# Altium schematic symbol library DRC.SchLib: 25 symbols
Pins are listed as number, name and electrical type; pins without a type are passive.

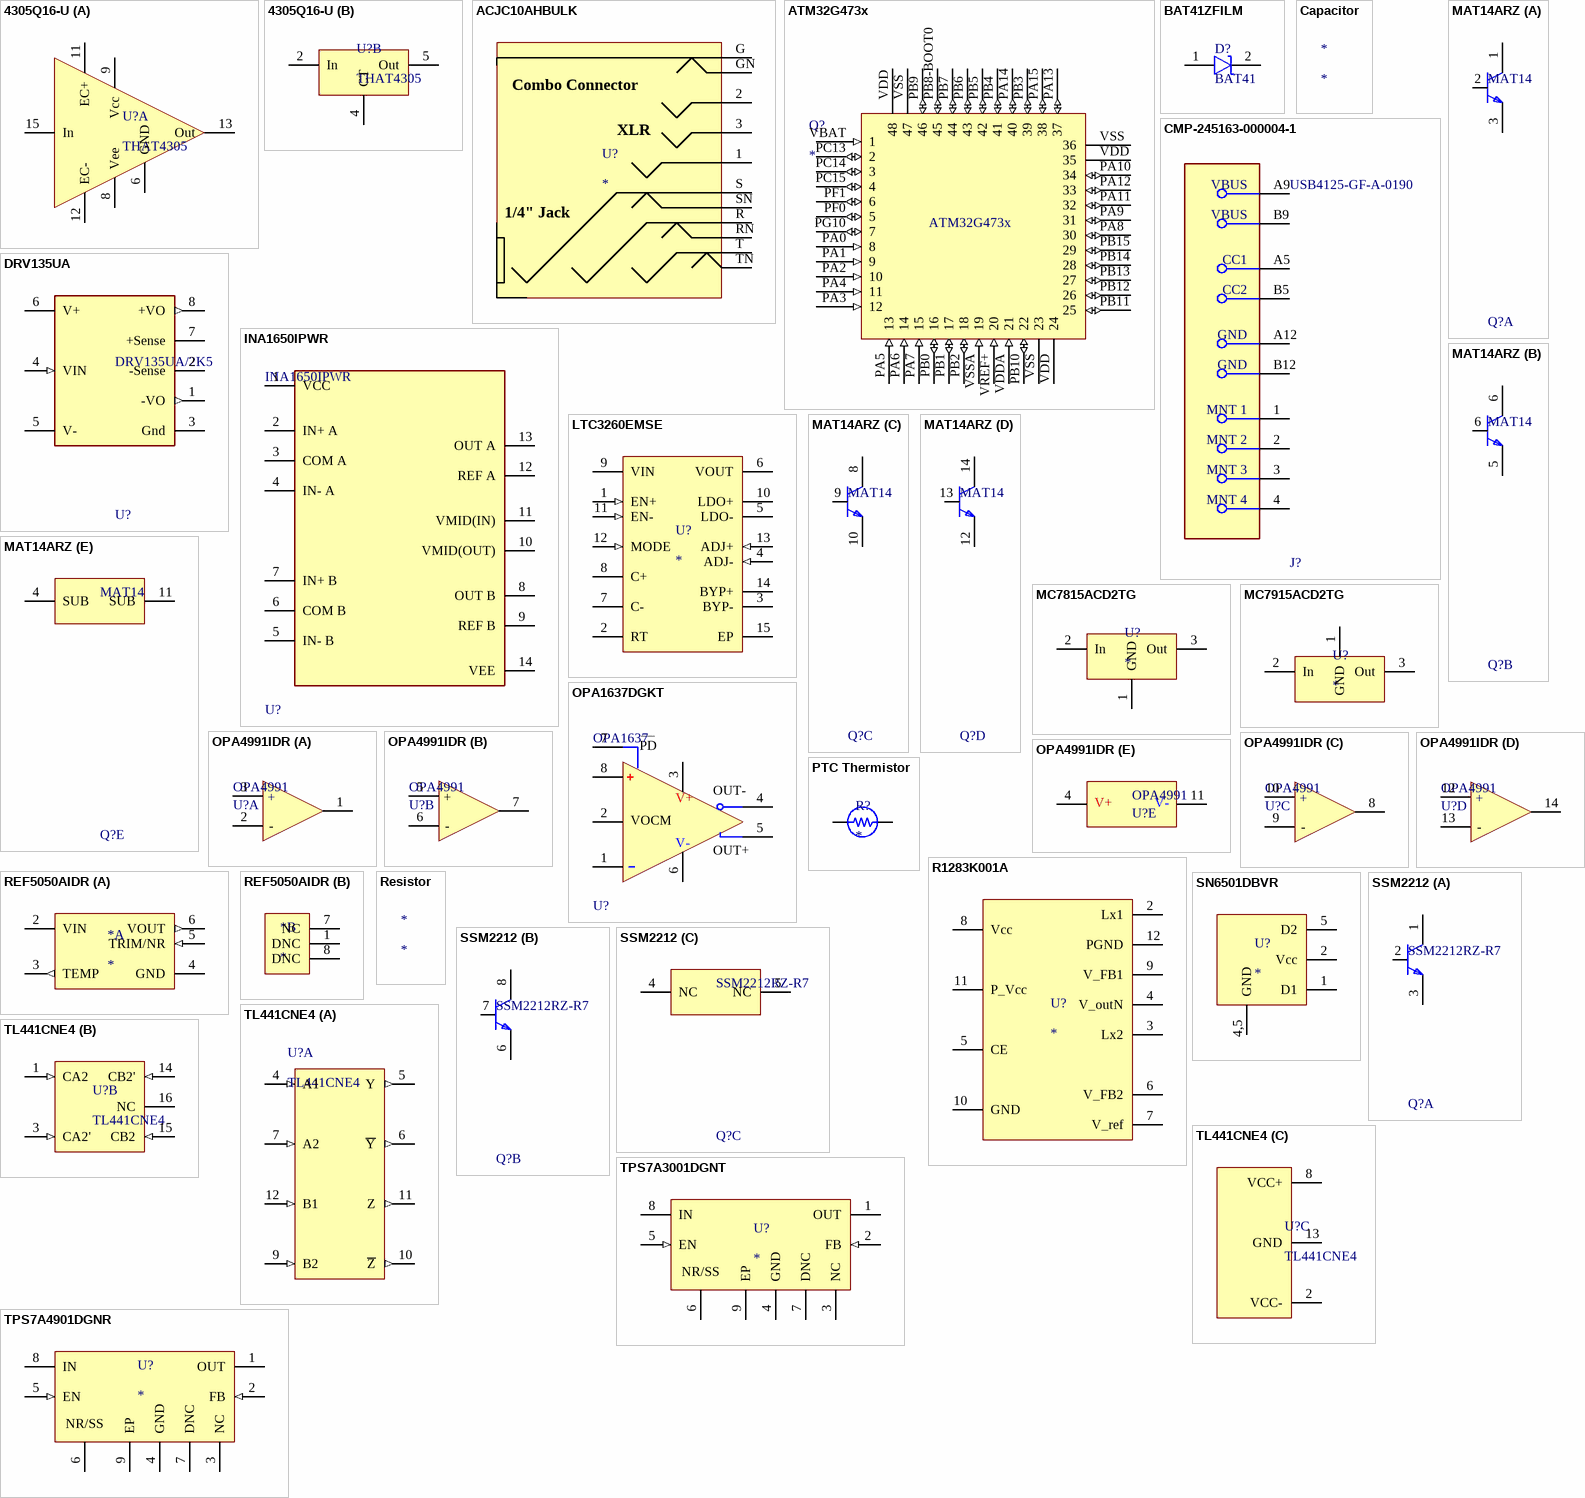
[diagram p0: symbols 4305Q16-U to TPS7A4901DGNR]

## 4305Q16-U
designator U?, comment THAT4305
Pre-trimmed Analog Engine® Dynamics Processor IC
simulation model THAT4305 (Model Description)
footprint QSOP-16 (QSOP, 16-Leads, Body 4.89x3.90mm, Pitch 0.64mm, IPC Medium Density)
part A pins: 6 GND, 8 Vee, 9 Vcc, 11 EC+, 12 EC-, 13 Out, 15 In
part B pins: 2 In, 4 CT, 5 Out

## ACJC10AHBULK
designator U?
Audio/RCA Connector, 10 Pole(s), Female, Solder Terminal, Latch, Receptacle; Manufacturer: Amphenol; Manufacturer Part Number: ACJC10AHBULK; Supplier: Digikey; Supplier Part Number: 889-ACJC10AHBULK-ND; RoHS: Yes; Stock: 1003; Pricing: 1=3.96, 10=3.6, 25=3.4092, 50=3.33, 100=3.1714, 250=2.77496, 500=2.69568, 1000=2.29926, 2500=2.1407 (USD); Contact Finish - Mating: NOT SPECIFIED; Connector Type: AUDIO/RCA CONNECTOR; RoHS Compliant: Yes; ComponentLink1URL: https://datasheet.ciiva.com:443/pdfs/VipMasterIC/IC/AMPH/AMPHS14349/AMPHS14349-1.pdf?src-supplier=IHS+Markit; ComponentLink1Description: https://datasheet.ciiva.com:443/pdfs/VipMasterIC/IC/AMPH/AMPHS14349/AMPHS14349-1.pdf?src-supplier=IHS+Markit; ComponentLink2URL: https://datasheet.ciiva.com/15309/88010807000-acjc10ah-241575-15309467.pdf?src-supplier=Mouser; ComponentLink2Description: https://datasheet.ciiva.com/15309/88010807000-acjc10ah-241575-15309467.pdf?src-supplier=Mouser
footprint ACJC10AH (XLR + 1/4 Combo Jack, Horizontal)
pins: 1, 2, 3, G, GN, R, RN, S, SN, T, TN
text: Combo Connector; XLR; 1/4" Jack

## ATM32G473x
designator Q?
Arm® Cortex®-M4 32-bit MCU+FPU, up to 512 KB Flash, 170 MHz / / 213DMIPS, 128 KB SRAM
footprint CQFP50P900X900X160-48N (CQFP, 48-Leads, Body 9.00x9.00mm, Pitch 0.50mm, IPC Medium Density)
pins: PA0 8 (in), PA1 9 (in), PA2 10 (in), PA3 12 (in), PA4 11 (in), PA5 13 (in), PA6 14 (in), PA7 15 (in), PA8 30 (io), PA9 31 (io), PA10 34 (io), PA11 32 (io), PA12 33 (io), PA13 37 (io), PA14 40 (io), PA15 38 (io), PB0 16 (io), PB1 17 (io), PB2 18 (io), PB3 39 (io), PB4 41 (io), PB5 42 (io), PB6 43 (io), PB7 44 (io), PB8-BOOT0 45 (io), PB9 46 (io), PB10 22 (io), PB11 25 (io), PB12 26 (io), PB13 27 (io), PB14 28 (io), PB15 29 (io), PC13 2 (io), PC14 3 (io), PC15 4 (io), PF0 5 (io), PF1 6 (io), PG10 7 (io), VBAT 1 (in), VDD 24 (power), VDD 35 (power), VDD 48 (power), VDDA 21 (in), VREF+ 20 (in), VSS 23 (power), VSS 36 (power), VSS 47 (power), VSSA 19 (in)

## BAT41ZFILM
designator D?, comment BAT41
Rectifier Diode, Schottky, 1 Phase, 1 Element, 0.2A, 100V V(RRM), Silicon; Manufacturer: STMicroelectronics; Manufacturer Part Number: BAT41ZFILM; Package Body Material: Plastic; Forward Voltage: 450mV; Non-rep Pk Forward Current-Max: 1A; Number of Elements: 1; Max Output current: 200mA; Time @ Peak Reflow Temperature-Max (s): 30s; Qualification Status: Not Qualified; Supplier: Mouser; Supplier Part Number: 511-BAT41ZFILM; RoHS: Yes; Category: Rectifier Diodes; Stock: 43204; Pricing: 1=0.33, 10=0.232, 50=0.232, 100=0.117, 1000=0.071, 10000=0.049 (USD); Pins: 2; Diode Element Material: SILICON; Package Shape: Rectangular; Terminal Finish: Tin; Max Operating Temperature: 150°C; JESD-609 Code: e3; Diode Type: RECTIFIER; JESD-30 Code: R-PDSO-G2; Moisture Sensitivity Level: 1; Package Style: SMALL OUTLINEMeter; Peak Reflow Temperature (Cel): 260°C; Rep Pk Reverse Voltage-Max: 100V; Surface Mount: Yes; Technology: SCHOTTKY; Terminal Form: Gull Wing; Terminal Position: DUAL; Reach SVHC Compliant: Yes; RoHS Compliant: Yes; ComponentLink1URL: https://datasheet.ciiva.com:443/pdfs/VipMasterIC/IC/SGST/SGSTS35734/SGSTS35734-1.pdf?src-supplier=IHS+Markit; ComponentLink1Description: https://datasheet.ciiva.com:443/pdfs/VipMasterIC/IC/SGST/SGSTS35734/SGSTS35734-1.pdf?src-supplier=IHS+Markit; ComponentLink2URL: https://datasheet.ciiva.com/1242/cd00130227-1242625.pdf?src-supplier=Newark; ComponentLink2Description: https://datasheet.ciiva.com/1242/cd00130227-1242625.pdf?src-supplier=Newark; ComponentLink3URL: https://datasheet.ciiva.com/46385/1689714-46385901.pdf?src-supplier=Element14; ComponentLink3Description: https://datasheet.ciiva.com/46385/1689714-46385901.pdf?src-supplier=Element14; ComponentLink4URL: https://datasheet.ciiva.com/46385/1689714-46385899.pdf?src-supplier=Element14; ComponentLink4Description: https://datasheet.ciiva.com/46385/1689714-46385899.pdf?src-supplier=Element14; ComponentLink5URL: https://datasheet.ciiva.com/16421/cd00130227-16421670.pdf?src-supplier=Future+Electronics; ComponentLink5Description: https://datasheet.ciiva.com/16421/cd00130227-16421670.pdf?src-supplier=Future+Electronics; ComponentLink6URL: https://datasheet.ciiva.com/22733/1689714-22733175.pdf?src-supplier=Element14; ComponentLink6Description: https://datasheet.ciiva.com/22733/1689714-22733175.pdf?src-supplier=Element14; ComponentLink7URL: https://datasheet.ciiva.com/915/cd00130227-915684.pdf?src-supplier=Digikey; ComponentLink7Description: https://datasheet.ciiva.com/915/cd00130227-915684.pdf?src-supplier=Digikey; ComponentLink8URL: https://datasheet.ciiva.com/915/cd00130227-915683.pdf?src-supplier=Digikey; ComponentLink8Description: https://datasheet.ciiva.com/915/cd00130227-915683.pdf?src-supplier=Digikey; ComponentLink9URL: https://datasheet.ciiva.com/915/cd00130227-915685.pdf?src-supplier=Digikey; ComponentLink9Description: https://datasheet.ciiva.com/915/cd00130227-915685.pdf?src-supplier=Digikey; ComponentLink10URL: https://datasheet.ciiva.com/15192/getdatasheetpartid-141692-15192973.pdf?src-supplier=Verical; ComponentLink10Description: https://datasheet.ciiva.com/15192/getdatasheetpartid-141692-15192973.pdf?src-supplier=Verical
pins: 1 A, 2 K

## Capacitor
designator *

## CMP-245163-000004-1
designator J?, comment USB4125-GF-A-0190
CONN RCPT TYPE C 6P SMD RA
footprint FP-USB4125-GF-A-0190-MFG
pins: 1 MNT 1, 2 MNT 2, 3 MNT 3, 4 MNT 4, A5 CC1, A9 VBUS, A12 GND, B5 CC2, B9 VBUS, B12 GND

## DRV135UA
designator U?, comment DRV135UA/2K5
IC LINE DRIVER 8SOIC; Number of Elements: 3; Interface: Analog; Supply Type: Dual; Input Offset Voltage (Vos): 10mV; Common Mode Rejection Ratio: 46dB; Power Supply Rejection Ratio (PSRR): 80dB; Nominal Supply Current: 5.2mA; Gain: 6dB; Operating Supply Voltage: 18V; Max Supply Voltage: 36V; Input Resistance: 10kR; Min Dual Supply Voltage: 4.5V; Slew Rate: 15V/µs; Number of Channels: 1; Min Supply Voltage: 9V; Weight: 0.002677oz; RoHS Compliant: Yes; Contact Plating: Gold; Radiation Hardening: No; Packaging: Tape and Reel; Lead Free: Lead Free; Case/Package: SOIC; Quiescent Current: 5.2mA; Max Dual Supply Voltage: 18V; Mount: Surface Mount; Min Operating Temperature: -55°C; Supply Current: 5.2mA; Max Operating Temperature: 125°C; Number of Pins: 8; Series: -; Voltage: 18V; Voltage Gain: 6dB; Package Quantity: 2500
footprint FP-D0008A-IPC_B
footprint FP-D0008A-IPC_A
footprint FP-D0008A-IPC_C
footprint FP-D0008A-MFG
pins: 1 -VO (out), 2 -Sense (hiz), 3 Gnd (power), 4 VIN (in), 5 V- (power), 6 V+ (power), 7 +Sense (hiz), 8 +VO (out)

## INA1650IPWR
designator U?
IC AUDIO RECEIVER 14TSSOP; Number of Channels: 2; RoHS Compliant: Yes; Packaging: Tape and Reel; Number of Pins: 14; Min Operating Temperature: -40°C; Case/Package: TSSOP; Logic Function: Receiver; Max Operating Temperature: 125°C
footprint FP-PW0014A-IPC_C
footprint FP-PW0014A-IPC_B
footprint FP-PW0014A-MFG
footprint FP-PW0014A-IPC_A
pins: 1 VCC (power), 2 IN+ A (hiz), 3 COM A, 4 IN- A (hiz), 5 IN- B (hiz), 6 COM B, 7 IN+ B (hiz), 8 OUT B, 9 REF B, 10 VMID(OUT), 11 VMID(IN), 12 REF A, 13 OUT A, 14 VEE (power)

## LTC3260EMSE
designator U?
Switched Capacitor Regulator, 550kHz Switching Freq-Max, CMOS, PDSO16; Manufacturer: Analog Devices / Linear Technology; Manufacturer Part Number: LTC3260EMSE#PBF; Package Body Material: Plastic; Channels: 1; Max Supply Voltage: 32V; Min Input Voltage: 4.5V; Nominal Supply Voltage: 12V; Switcher Configuration: INVERTER; Supplier: Mouser; Supplier Part Number: 584-LTC3260EMSE#PBF; RoHS: Yes; Category: Voltage Regulators - Switching; Stock: 15726; Pricing: 1=9.81, 10=8.86, 25=7.56, 50=7.56, 100=7.56, 111=6.38, 259=6.1, 518=5.65, 1000=5.65, 1036=5.55, 10000=5.55 (USD); Case/Package: HTSSOP; Pins: 16; Package Shape: Rectangular; Terminal Finish: Tin; Min Operating Temperature: 0°C; Max Operating Temperature: 85°C; Package Style: SMALL OUTLINE, HEAT SINK/SLUG, THIN PROFILE, SHRINK PITCHMeter; Surface Mount: Yes; Terminal Form: Gull Wing; Terminal Position: DUAL; JESD-609 Code: e3; Moisture Sensitivity Level: 1; Throw Configuration: SWITCHED CAPACITOR REGULATOR; Frequency: 550kHz; Technology: CMOS; JESD-30 Code: R-PDSO-G16; Length: 4.039mm; Width: 3mm; Height - Seated (Max): 1.1mm; Terminal Pitch: 0.5mm; Reach SVHC Compliant: Yes; RoHS Compliant: Yes; Temperature Grade: OTHER; ComponentLink1URL: https://datasheet.ciiva.com:443/pdfs/VipMasterIC/IC/LITC/LITCS12157/LITCS12157-1.pdf?src-supplier=IHS+Markit; ComponentLink1Description: https://datasheet.ciiva.com:443/pdfs/VipMasterIC/IC/LITC/LITCS12157/LITCS12157-1.pdf?src-supplier=IHS+Markit; ComponentLink2URL: https://datasheet.ciiva.com/6192/1668857-6192816.pdf?src-supplier=Farnell; ComponentLink2Description: https://datasheet.ciiva.com/6192/1668857-6192816.pdf?src-supplier=Farnell; ComponentLink3URL: https://datasheet.ciiva.com/7905/1668857-7905973.pdf?src-supplier=Element14; ComponentLink3Description: https://datasheet.ciiva.com/7905/1668857-7905973.pdf?src-supplier=Element14
footprint LT-MSE-16-EDP_M (SOP, 16-Leads, Body 4.1x3.1mm, Pitch 0.5mm, Thermal Pad 2.95x1.76mm, IPC Medium Density)
pins: 1 EN+ (in) "Logic Input. A logic “high” on the EN+ pin enables the positive low dropout (LDO+) regulator.", 2 RT "Input Connection for Programming the Switching Frequency. The RT pin servos to a fixed 1.2V when the EN- pin is driven to a logic “high”. A resistor from RT to GND sets the charge pump switching frequency. If the RT (See Datasheet)", 3 BYP- "LDO- Reference Bypass Pin. Connect a capacitor from BYP- to GND to reduce LDO- output noise. Leave floating if unused.", 4 ADJ- (in) "Feedback Input for the Negative Low Dropout Regulator. This pin servos to a fixed voltage of -1.2V when the control loop is complete.", 5 LDO- (power) "Negative Low Dropout (LDO-) Linear Regulator Output. This pin requires a low ESR (equivalent series resistance) capacitor with at least 2uF capacitance to ground for stability.", 6 VOUT (power) "Charge Pump Output Voltage. In constant frequency mode (MODE = low) this pin is driven to -VIN. In Burst Mode operation, (MODE = high) this pin voltage is regulated to -0.94 • VIN using an internal burst comparator wit(See Datasheet)", 7 C- "Flying Capacitor Negative Connection.", 8 C+ "Flying Capacitor Positive Connection.", 9 VIN (power) "Input Voltage for Both Charge Pump and Positive Low Dropout (LDO+) Regulator. VIN should be bypassed with a low impedance ceramic capacitor", 10 LDO+ (power) "Positive Low Dropout (LDO+) Output. This pin requires a low ESR capacitor with at least 2uF capacitance to ground for stability.", 11 EN- (in) "Logic Input. A logic “high” on the EN- pin enables the inverting charge pump as well as the negative LDO regulator.", 12 MODE (in) "Logic Input. The MODE pin determines the charge pump operating mode. A logic “high” on the MODE pin forces the charge pump to operate in Burst Mode operation regulating VOUT to approximately -0.94 • VIN with hyste(See Datasheet)", 13 ADJ+ (in) "Feedback Input for the Positive Low Dropout (LDO+) Regulator. This pin servos to a fixed voltage of 1.2V when the control loop is complete.", 14 BYP+ "LDO+ Reference Bypass Pin. Connect a capacitor from BYP+ to GND to reduce LDO+ output noise. Leave floating if unused.", 15 EP (power) "Ground. The exposed package pad is ground and must be soldered to the PC board ground plane for proper functionality and for rated thermal performance."

## MAT14ARZ
designator Q?, comment MAT14
TRANS 4NPN 40V 0.03A 14SO; Transition Frequency: 300MHz; Max Collector Current: 30mA; Max Frequency: 1kHz; Collector-emitter Voltage-Max: 60mV; Number of Elements: 4; Polarity: NPN; Max Operating Temperature: 85°C; Collector Emitter Voltage (VCEO): 40V; Collector Emitter Breakdown Voltage: 40V; REACH SVHC: No SVHC; Series: MAT14; Collector Base Voltage (VCBO): 40V; Mount: Surface Mount; Packaging: Rail/Tube; Package Quantity: 56; Case/Package: SOIC; Min Operating Temperature: -40°C; Length: 8.75mm; RoHS Compliant: Yes; Frequency: 300MHz; Radiation Hardening: No; Lead Free: Contains Lead; Collector Emitter Saturation Voltage: 60mV; Height: 1.5mm; Width: 4mm; Number of Pins: 14
footprint FP-R-14-IPC_B
part A pins: 1 C1, 2 B1, 3 E1
part B pins: 5 E2, 6 B2, 6 C2
part C pins: 8 C3, 9 B3, 10 E3
part D pins: 12 E4, 13 B4, 14 C4
part E pins: 4 SUB, 11 SUB

## MC7815ACD2TG
designator U?
Fixed Positive Standard Regulator, 15V, D2PAK
simulation model LM7815 (Model Description)
footprint D2PAK (D2-PAK, 3-Pads, Body 7.77x8.48mm (max), IPC Medium Density)
pins: 1 GND, 2 In, 3 Out

## MC7915ACD2TG
designator U?
Fixed Negative Standard Regulator, 15V, BIPolar, PSSO2; Manufacturer: ON Semiconductor; Manufacturer Part Number: MC7915ACD2TG; Package Body Material: Plastic; Dropout Voltage1-Nom: 1.3V; Input Voltage Absolute-Max: 35V; Max Supply Voltage: 30V; Min Input Voltage: 17.5V; Line Regulation-Max: 0.15%; Channels: 1; Output Current1-Max: 1A; Output Voltage1-Max: 15.6V; Output Voltage1-Min: 14.4V; Regulator Type: FIXED NEGATIVE SINGLE OUTPUT STANDARD REGULATOR; Time @ Peak Reflow Temperature-Max (s): 40s; Voltage Tolerance-Max: 4%; Qualification Status: Not Qualified; Supplier: Digikey; Supplier Part Number: MC7915ACD2TGOS-ND; RoHS: Yes; Category: Voltage Regulators - Linear; Stock: 1935; Pricing: 1=0.89, 10=0.793, 50=0.753, 100=0.5783, 250=0.51104, 500=0.48414, 1000=0.37655, 2500=0.35772, 5000=0.34427 (USD); Case/Package: TO-263; Pins: 2; Package Shape: Rectangular; Terminal Finish: Tin; JESD-609 Code: e3; Adjustability: FIXED; JESD-30 Code: R-PSSO-G2; Load Regulation-Max: 0.15%; Moisture Sensitivity Level: 1; Number of Outputs: 1; Operating Temperature, TJ-Max: 125°C; Operating Temperature, TJ-Min: 0°C; Output Voltage1-Nom: 15V; Package Style: SMALL OUTLINEMeter; Packaging: Rail/Tube; Peak Reflow Temperature (Cel): 260°C; Surface Mount: Yes; Technology: BIPOLAR; Terminal Form: Gull Wing; Terminal Position: SINGLE; Length: 10.02mm; Width: 9.1945mm; Height - Seated (Max): 4.826mm; Terminal Pitch: 2.54mm; RoHS Compliant: Yes; Reach SVHC Compliant: No; ComponentLink1URL: https://datasheet.ciiva.com:443/pdfs/VipMasterIC/IC/ONSM/ONSMS35561/ONSMS35561-1.pdf?src-supplier=IHS+Markit; ComponentLink1Description: https://datasheet.ciiva.com:443/pdfs/VipMasterIC/IC/ONSM/ONSMS35561/ONSMS35561-1.pdf?src-supplier=IHS+Markit; ComponentLink2URL: https://datasheet.ciiva.com/4882/mc7900-d-107482-4882176.pdf?src-supplier=Mouser; ComponentLink2Description: https://datasheet.ciiva.com/4882/mc7900-d-107482-4882176.pdf?src-supplier=Mouser; ComponentLink3URL: https://datasheet.ciiva.com/8230/mc7900-d-8230047.pdf?src-supplier=Avnet; ComponentLink3Description: https://datasheet.ciiva.com/8230/mc7900-d-8230047.pdf?src-supplier=Avnet
footprint D2Pak (D2-PAK, 3-Pads, Body 7.77x8.48mm (max), IPC Medium Density)
simulation model LM7915 (Model Description)
pins: 1 GND, 2 In, 3 Out

## OPA1637DGKT
designator U?, comment OPA1637
Fully differential amplifier
footprint FP-DGK0008A-IPC_A
footprint FP-DGK0008A-IPC_B
footprint FP-DGK0008A-IPC_C
footprint FP-DGK0008A-MFG
pins: 1 IN- (hiz), 2 VOCM (power), 3 VS+ (power), 4 OUT+, 5 OUT-, 6 VS- (power), 7 ~{PD} (oc), 8 IN+ (hiz)
text: __; PD; V+; V-

## OPA4991IDR
designator U?, comment OPA4991
40-V, DUAL 4.5MHZ, RAIL-TO-RAIL
footprint FP-D0014A-IPC_C
footprint FP-D0014A-MFG
footprint FP-D0014A-IPC_A
footprint FP-D0014A-IPC_B
part A pins: 1 OUT1, 2 IN1- (hiz), 3 IN1+ (hiz)
part B pins: 5 IN2+ (hiz), 6 IN2- (hiz), 7 OUT2
part C pins: 8 OUT3, 9 IN3- (hiz), 10 IN3+ (hiz)
part D pins: 12 IN4+ (hiz), 13 IN4- (hiz), 14 OUT4
part E pins: 4 V+ (power), 11 V- (power)
part A text: +; -
part B text: +; -
part C text: +; -
part D text: +; -

## PTC Thermistor
designator R?
pins: 1, 2

## R1283K001A
designator U?
2ch DC/DC for CCD & OLED
pins: 2 Lx1, 3 Lx2, 4 V_outN, 5 CE, 6 V_FB2, 7 V_ref, 8 Vcc, 9 V_FB1, 10 GND, 11 P_Vcc, 12 PGND

## REF5050AIDR
designator *
Three Terminal Voltage Reference, 1 Output, 5V, Trim/Adjustable, PDSO8; Manufacturer: Texas Instruments; Manufacturer Part Number: REF5050AIDR; Package Body Material: Plastic; Channels: 1; Package Equivalence Code: SOP8,.25; Max Supply Voltage: 18V; Min Supply Voltage: 2.7V; Temp Coef of Voltage-Max: 3ppm/°C; Trim/Adjustable Output: Yes; Voltage Tolerance-Max: 0.1%; Max Output Voltage: 5.005V; Min Output Voltage: 4.995V; Qualification Status: Not Qualified; Supplier: Mouser; Supplier Part Number: 595-REF5050AIDR; RoHS: Yes; Category: Voltage References; Stock: 15005; Pricing: 1=3.52, 10=3.17, 50=3.17, 100=2.59, 250=2.46, 500=2.21, 1000=1.86, 2500=1.77, 5000=1.7, 10000=1.77 (USD); Case/Package: SOP; Pins: 8; Package Shape: Rectangular; Terminal Finish: Nickel; Min Operating Temperature: -40°C; Max Operating Temperature: 125°C; JESD-609 Code: e4; Throw Configuration: THREE TERMINAL VOLTAGE REFERENCE; JESD-30 Code: R-PDSO-G8; Moisture Sensitivity Level: 2; Number of Outputs: 1; Nominal Output Voltage: 5V; Package Style: SMALL OUTLINEMeter; Peak Reflow Temperature (Cel): 260°C; Surface Mount: Yes; Terminal Form: Gull Wing; Terminal Position: DUAL; Length: 4.9mm; Width: 3.9mm; Height - Seated (Max): 1.75mm; Terminal Pitch: 1.27mm; Temperature Grade: AUTOMOTIVE; Reach SVHC Compliant: Yes; RoHS Compliant: Yes; ComponentLink1URL: https://www.ti.com:443/lit/ds/symlink/ref5010.pdf?src-supplier=IHS+Markit; ComponentLink1Description: https://www.ti.com:443/lit/ds/symlink/ref5010.pdf?src-supplier=IHS+Markit; ComponentLink2URL: https://datasheet.ciiva.com/3236/ref5050-3236312.pdf?src-supplier=Avnet; ComponentLink2Description: https://datasheet.ciiva.com/3236/ref5050-3236312.pdf?src-supplier=Avnet; ComponentLink3URL: https://datasheet.ciiva.com/2012/ref5020-2012761.pdf?src-supplier=Digikey; ComponentLink3Description: https://datasheet.ciiva.com/2012/ref5020-2012761.pdf?src-supplier=Digikey
footprint D0008A_M (SOIC, 8-Leads, Body 5x4mm, Pitch 1.27mm, IPC Low Density)
part A pins: 2 VIN (power), 3 TEMP (out), 4 GND (power), 5 TRIM/NR (in), 6 VOUT (out)
part B pins: 1 DNC "Do not connect.", 7 NC "No internal connection.", 8 DNC "Do not connect."

## Resistor
designator *

## SN6501DBVR
designator U?
Interface Circuit, CMOS, PDSO5; Manufacturer: Texas Instruments; Manufacturer Part Number: SN6501DBVR; Package Body Material: Plastic; Channels: 1; Package Equivalence Code: TSOP5/6,.11,37; Power Supplies: 3.3/5V; Max Supply Voltage: 5.5V; Min Supply Voltage: 3V; Nominal Supply Voltage: 3.3V; Qualification Status: Not Qualified; Supplier: Mouser; Supplier Part Number: 595-SN6501DBVR; RoHS: Yes; Category: Power Management ICs; Stock: 54147; Pricing: 1=2.04, 10=1.8, 50=1.8, 100=1.47, 1000=1.01, 10000=0.88 (USD); Case/Package: LSSOP; Pins: 5; Terminal Finish: Nickel; Package Shape: Rectangular; Min Operating Temperature: -40°C; Max Operating Temperature: 125°C; JESD-609 Code: e4; JESD-30 Code: R-PDSO-G5; Moisture Sensitivity Level: 1; Package Style: SMALL OUTLINE, LOW PROFILE, SHRINK PITCHMeter; Surface Mount: Yes; Terminal Form: Gull Wing; Terminal Position: DUAL; Peak Reflow Temperature (Cel): 260°C; Interface IC Type: INTERFACE CIRCUIT; Technology: CMOS; Length: 2.9mm; Width: 1.6mm; Height - Seated (Max): 1.45mm; Terminal Pitch: 0.95mm; Reach SVHC Compliant: Yes; RoHS Compliant: Yes; Temperature Grade: AUTOMOTIVE; ComponentLink1URL: https://www.ti.com:443/lit/ds/symlink/sn6501.pdf?src-supplier=IHS+Markit; ComponentLink1Description: https://www.ti.com:443/lit/ds/symlink/sn6501.pdf?src-supplier=IHS+Markit; ComponentLink2URL: https://datasheet.ciiva.com/41798/sn6501-41798985.pdf?src-supplier=Digikey; ComponentLink2Description: https://datasheet.ciiva.com/41798/sn6501-41798985.pdf?src-supplier=Digikey
pins: 1 D1, 2 Vcc, 4,5 GND, 5 D2

## SSM2212
designator Q?, comment SSM2212RZ-R7
TRANS 2NPN 40V 0.02A 8SOIC; Transition Frequency: 450MHz; Max Power Dissipation: 500mW; Element Configuration: Dual; Max Collector Current: 20mA; Polarity: NPN; Collector Emitter Breakdown Voltage: 45V; Number of Elements: 2; Collector-emitter Voltage-Max: 800mV; Frequency: 200MHz; Packaging: Tape and Reel; RoHS Compliant: Yes; Lead Free: Contains Lead; Contact Plating: Tin; Collector Emitter Voltage (VCEO): 40V; Max Breakdown Voltage: 40V; Case/Package: SOIC; Series: SSM2212; Radiation Hardening: No; Package Quantity: 1000; Number of Pins: 8; Collector Base Voltage (VCBO): 40V; Mount: Surface Mount; Max Operating Temperature: 85°C; Min Operating Temperature: -40°C
footprint FP-R-8-IPC_B
part A pins: 1 C1, 2 B1, 3 E1
part B pins: 6 E2, 7 B2, 8 C2
part C pins: 4 NC, 5 NC

## TL441CNE4
designator U?
Logarithmic Amplifier, 0 to 70 degC, 16-pin DIP (N16), Pb-Free (RoHS); Manufacturer: Texas Instruments; Iq(Max)(mA): 23; DatasheetVersion: SLVS328; ComponentLink3URL: http://www.ti.com/litv/pdf/mpdi002c; Eco-Plan: Pb-Free (RoHS); ComponentLink2URL: http://www.ti.com/general/docs/lit/getliterature.tsp?genericPartNumber=TL441&fileType=pdf; SubFamily: Logarithmic Amplifier; ComponentLink3Description: Package Specification; ComponentLink1Description: Manufacturer URL; ComponentLink1URL: http://www.ti.com/; PackageDescription: 16-Pin Plastic In-Line, Body 19.305 x 6.35 mm, Pitch 2.54 mm; PackageVersion: 4040049/E, 12/2002; Code_JEDEC: MS-001; PartNumber: TL441CNE4; ComponentLink2Description: Datasheet; PackageReference: N16; Mounting Technology: Through Hole
footprint TI-N16 (DIP, 16-Leads, Body 19.7x6.6mm, Pitch 2.54mm)
part A pins: 4 A1 (in), 5 Y (out), 6 ~{Y} (out), 7 A2 (in), 9 B2 (in), 10 ~{Z} (out), 11 Z (out), 12 B1 (in)
part B pins: 1 CA2 (in), 3 CA2' (in), 14 CB2' (in), 15 CB2 (in), 16 NC
part C pins: 2 VCC- (power), 8 VCC+ (power), 13 GND (power)

## TPS7A3001DGNT
designator U?
Adjustable Negative LDO Regulator, 1.18V Min, 33V Max, 0.6V Dropout, BIPolar, PDSO8; Manufacturer: Texas Instruments; Manufacturer Part Number: TPS7A3001DGNT; Package Body Material: Plastic; Dropout Voltage1-Max: 600mV; Channels: 1; Output Current1-Max: 200mA; Regulator Type: ADJUSTABLE NEGATIVE SINGLE OUTPUT LDO REGULATOR; Dropout Voltage1-Nom: 325mV; Package Equivalence Code: TSSOP8,.19; Qualification Status: Not Qualified; Supplier: Mouser; Supplier Part Number: 595-TPS7A3001DGNT; RoHS: Yes; Category: Voltage Regulators - Linear; Stock: 15878; Pricing: 1=4.76, 10=4.19, 50=4.19, 100=3.5, 250=3.32, 500=2.98, 1000=2.52, 2500=2.39, 10000=2.39 (USD); Case/Package: HTSSOP; Pins: 8; Package Shape: Square; Terminal Finish: Nickel; JESD-609 Code: e4; JESD-30 Code: S-PDSO-G8; Moisture Sensitivity Level: 2; Operating Temperature, TJ-Max: 125°C; Operating Temperature, TJ-Min: -40°C; Output Voltage1-Max: 33V; Output Voltage1-Min: 1.18V; Package Style: SMALL OUTLINE, HEAT SINK/SLUG, THIN PROFILE, SHRINK PITCHMeter; Surface Mount: Yes; Technology: BIPOLAR; Terminal Form: Gull Wing; Terminal Position: DUAL; Adjustability: ADJUSTABLE; Number of Outputs: 1; Packaging: Tape and Reel; Peak Reflow Temperature (Cel): 260°C; Length: 3mm; Width: 3mm; Height - Seated (Max): 1.1mm; Terminal Pitch: 0.65mm; Reach SVHC Compliant: Yes; RoHS Compliant: Yes; ComponentLink1URL: https://www.ti.com:443/lit/ds/symlink/tps7a30.pdf?src-supplier=IHS+Markit; ComponentLink1Description: https://www.ti.com:443/lit/ds/symlink/tps7a30.pdf?src-supplier=IHS+Markit; ComponentLink2URL: https://datasheet.ciiva.com/22733/1726442-22733400.pdf?src-supplier=Farnell; ComponentLink2Description: https://datasheet.ciiva.com/22733/1726442-22733400.pdf?src-supplier=Farnell; ComponentLink3URL: https://datasheet.ciiva.com/4885/sbvs125a-126025-4885255.pdf?src-supplier=Mouser; ComponentLink3Description: https://datasheet.ciiva.com/4885/sbvs125a-126025-4885255.pdf?src-supplier=Mouser; ComponentLink4URL: https://datasheet.ciiva.com/14276/tps7a3001-14276192.pdf?src-supplier=Avnet; ComponentLink4Description: https://datasheet.ciiva.com/14276/tps7a3001-14276192.pdf?src-supplier=Avnet
footprint DGN0008D_M (TSOP, 8-Leads, Body 3.1x3.1mm, Pitch 0.65mm, Thermal Pad 1.89x1.57mm, IPC Medium Density)
pins: 1 OUT (power) "Regulator output. A capacitor>=2.2 uF must be tied from this pin to ground to assure stability.", 2 FB (in) "This pin is the input to the control-loop error amplifier. It is used to set the output voltage of the device.", 3 NC "Not internally connected. This pin must either be left open or tied to GND.", 4 GND (power) "Ground", 5 EN (in) "This pin turns the regulator on or off. If VEN>= V+EN_HI or VEN=< V-EN_HI, the regulator is enabled. If V+EN_LO>=VEN>= V-EN_LO, the regulator is disabled. The EN pin can be connected to IN, if not used. |VEN|=< |VIN|.", 6 NR/SS "Noise reduction pin. Connecting an external capacitor to this pin bypasses noise generated by the internal bandgap. This capacitor allows RMS noise to be reduced to very low levels and also controls the soft-start function.", 7 DNC "DO NOT CONNECT. Do not route this pin to any electrical net, not even GND or IN.", 8 IN (power) "Input supply", 9 EP "Must either be left open or tied to GND. Solder to printed circuit board (PCB) plane to enhance thermal performance"

## TPS7A4901DGNR
designator U?
Adjustable Positive LDO Regulator, 1.176V Min, 33V Max, 0.6V Dropout, BIPolar, PDSO8; Manufacturer: Texas Instruments; Manufacturer Part Number: TPS7A4901DGNR; Package Body Material: Plastic; Regulator Type: ADJUSTABLE POSITIVE SINGLE OUTPUT LDO REGULATOR; Dropout Voltage1-Max: 600mV; Dropout Voltage1-Nom: 333mV; Channels: 1; Output Current1-Max: 150mA; Output Voltage1-Min: 1.194V; Package Equivalence Code: TSSOP8,.19; Qualification Status: Not Qualified; Supplier: Mouser; Supplier Part Number: 595-TPS7A4901DGNR; RoHS: Yes; Category: Voltage Regulators - Linear; Stock: 5747; Pricing: 1=2.84, 10=2.56, 50=2.56, 100=2.09, 1000=1.5, 10000=1.37 (USD); Case/Package: HTSSOP; Pins: 8; Terminal Finish: Nickel; Package Shape: Square; JESD-609 Code: e4; Moisture Sensitivity Level: 2; Adjustability: ADJUSTABLE; JESD-30 Code: S-PDSO-G8; Number of Outputs: 1; Operating Temperature, TJ-Max: 125°C; Operating Temperature, TJ-Min: -40°C; Output Voltage1-Max: 33V; Package Style: SMALL OUTLINE, HEAT SINK/SLUG, THIN PROFILE, SHRINK PITCHMeter; Packaging: Tape and Reel; Peak Reflow Temperature (Cel): 260°C; Surface Mount: Yes; Technology: BIPOLAR; Terminal Form: Gull Wing; Terminal Position: DUAL; Length: 3mm; Width: 3mm; Height - Seated (Max): 1.1mm; Terminal Pitch: 0.65mm; Reach SVHC Compliant: Yes; RoHS Compliant: Yes; ComponentLink1URL: https://www.ti.com:443/lit/ds/symlink/tps7a49.pdf?src-supplier=IHS+Markit; ComponentLink1Description: https://www.ti.com:443/lit/ds/symlink/tps7a49.pdf?src-supplier=IHS+Markit; ComponentLink2URL: https://datasheet.ciiva.com/4885/sbvs121b-126024-4885345.pdf?src-supplier=Mouser; ComponentLink2Description: https://datasheet.ciiva.com/4885/sbvs121b-126024-4885345.pdf?src-supplier=Mouser; ComponentLink3URL: https://datasheet.ciiva.com/41462/001015155-da-01-en-ic-reg-ldo-adj-tps7a4901dgnr-vssop-8-tid-41462999.pdf?src-supplier=Conrad; ComponentLink3Description: https://datasheet.ciiva.com/41462/001015155-da-01-en-ic-reg-ldo-adj-tps7a4901dgnr-vssop-8-tid-41462999.pdf?src-supplier=Conrad; ComponentLink4URL: https://datasheet.ciiva.com/7547/1857485-7547109.pdf?src-supplier=Newark; ComponentLink4Description: https://datasheet.ciiva.com/7547/1857485-7547109.pdf?src-supplier=Newark; ComponentLink5URL: https://datasheet.ciiva.com/14275/sbvs121b-14275869.pdf?src-supplier=Avnet; ComponentLink5Description: https://datasheet.ciiva.com/14275/sbvs121b-14275869.pdf?src-supplier=Avnet
footprint DGN0008D_M (TSOP, 8-Leads, Body 3.1x3.1mm, Pitch 0.65mm, Thermal Pad 1.89x1.57mm, IPC Medium Density)
pins: 1 OUT (power) "Regulator output. A capacitor>=2.2 uF must be tied from this pin to ground to assure stability.", 2 FB (in) "This pin is the input to the control-loop error amplifier. It is used to set the output voltage of the device.", 3 NC "Not internally connected. This pin must either be left open or tied to GND.", 4 GND (power) "Ground", 5 EN (in) "This pin turns the regulator on or off. If VEN>= V+EN_HI or VEN=< V-EN_HI, the regulator is enabled. If V+EN_LO>=VEN>= V-EN_LO, the regulator is disabled. The EN pin can be connected to IN, if not used. |VEN|=< |VIN|.", 6 NR/SS "Noise reduction pin. Connecting an external capacitor to this pin bypasses noise generated by the internal bandgap. This capacitor allows RMS noise to be reduced to very low levels and also controls the soft-start function.", 7 DNC "DO NOT CONNECT. Do not route this pin to any electrical net, not even GND or IN.", 8 IN (power) "Input supply", 9 EP "Must either be left open or tied to GND. Solder to printed circuit board (PCB) plane to enhance thermal performance"

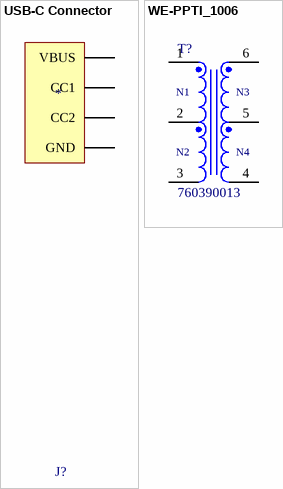
[diagram p1: symbols USB-C Connector to WE-PPTI_1006]

## USB-C Connector
designator J?
Generic USB-C Connector, Female
footprint FP-USB4125-GF-A-0190-MFG
pins: 1 VBUS, 2 CC1, 3 CC2, 4 GND

## WE-PPTI_1006
designator T?, comment 760390013
TRANSFORMER 475UH SMD; NexarPartId: 26029731; Turns Ratio: 1:1.7; Current Rating: 150mA; Frequency: 10kHz; DC Resistance (DCR): 470mΩ; Inductance: 475µH; Isolation Voltage: 2.5kV; Termination: SMD/SMT; RoHS: Compliant; Mount: Surface Mount; Length: 10.05mm; Packaging: Digi-Reel®; Height: 4.19mm; Max DC Current: 150mA; Min Operating Temperature: -40°C; Case/Package: SMD/SMT; Max Operating Temperature: 125°C; Height - Seated (Max): 4.19mm; Width: 6.73mm
footprint WE-PPTI_1006_L10.2W6.73H4.19 (TRANSFORMER, AEC-Q200, 475UH, SMT; Inductance: 475µH; Product Range: MID-PPTI Series; SVHC: No SVHC (15-Jan-2019))
pins: 1, 2, 3, 4, 5, 6
text: N1; N3; N2; N4